# Altium footprint library DSub.PcbLib: 3 footprints
Each footprint in its own frame and in the unit in brackets; x right, y up, seen from the top. Pads: shape width x height; smd on the part's side, far side on the other; paste and mask are expansions set on the pad; w line width, h text height; cw(c..) or ccw(c..) is an arc to the next point about the centre after c.
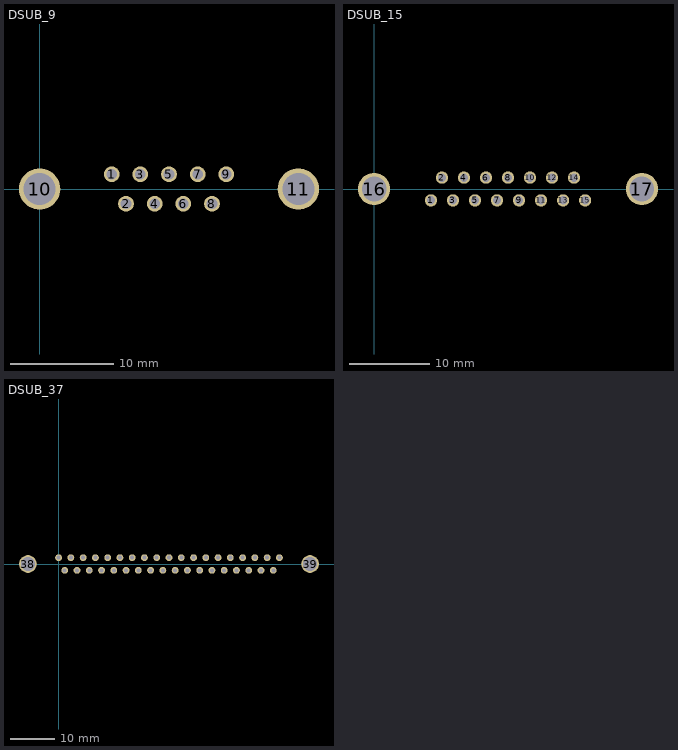
[diagram p0: the footprints below, top view; thin cyan lines are the x and y axes]

## DSUB_9 [mm]
pads (11):
  round 1.524 hole 1.04: 1(6.955,1.42) 2(8.34,-1.42) 3(9.725,1.42) 4(11.11,-1.42) 5(12.495,1.42) 6(13.88,-1.42) 7(15.265,1.42) 8(16.65,-1.42) 9(18.035,1.42)
  round 4 hole 3.1: 10(0,0) 11(24.99,0)
3D body "c-2301826-1-a-3d.stp": height 13, standoff -4.15, extent -2.954,-6.223 27.846,6.327

## DSUB_15 [mm]
pads (17):
  round 1.524 hole 1.04: 1(7.08,-1.42) 2(8.445,1.42) 3(9.82,-1.42) 4(11.185,1.42) 5(12.56,-1.42) 6(13.925,1.42) 7(15.3,-1.42) 8(16.665,1.42) 9(18.04,-1.42) 10(19.405,1.42) 11(20.78,-1.42) 12(22.145,1.42) 13(23.52,-1.42) 14(24.885,1.42) 15(26.26,-1.42)
  round 4 hole 3.05: 16(0,0) 17(33.33,0)
3D body "c-5747236-4-c-3d.stp": height 12.79, standoff -2.93, extent -2.946,-3.439 36.22,15.164

## DSUB_37 [mm]
pads (39):
  round 1.524 hole 0.9: 1(0,1.42) 2(1.38,-1.42) 3(2.76,1.42) 4(4.14,-1.42) 5(5.52,1.42) 6(6.9,-1.42) 7(8.28,1.42) 8(9.66,-1.42) 9(11.04,1.42) 10(12.42,-1.42) 11(13.8,1.42) 12(15.18,-1.42) 13(16.56,1.42) 14(17.94,-1.42) 15(19.32,1.42) 16(20.7,-1.42) 17(22.08,1.42) 18(23.46,-1.42) 19(24.84,1.42) 20(26.22,-1.42) 21(27.6,1.42) 22(28.98,-1.42) 23(30.36,1.42) 24(31.74,-1.42) 25(33.12,1.42) 26(34.5,-1.42) 27(35.88,1.42) 28(37.26,-1.42) 29(38.64,1.42) 30(40.02,-1.42) 31(41.4,1.42) 32(42.78,-1.42) 33(44.16,1.42) 34(45.54,-1.42) 35(46.92,1.42) 36(48.3,-1.42) 37(49.68,1.42)
  round 4 hole 3.1: 38(-6.91,0) 39(56.59,0)
3D body "sd37s33e4gv00lf.stp": height 12.55, standoff -3.2, extent -9.731,-15.748 59.769,3.002